# EAGLE library part NE555 (library RobotElementy)
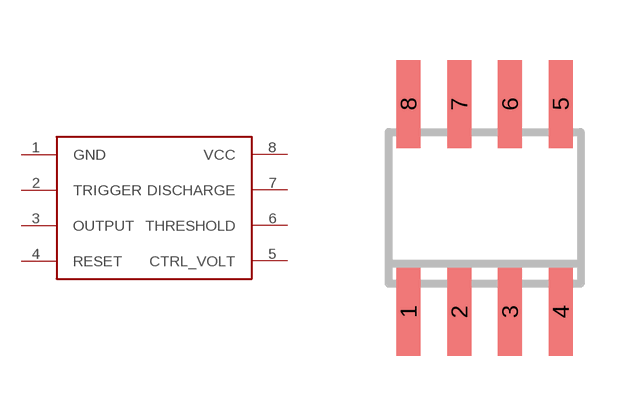
[diagram p4: symbol with the pads of SO8; footprint SO8]

Designator prefix -

## NE555  [SO8]
1  GND
2  TRIGGER
3  OUTPUT
4  RESET
5  CTRL_VOLT
6  THRESHOLD
7  DISCHARGE
8  VCC

## Footprint SO8 (pad centres in mm)
SMALL OUTLINE INTEGRATED CIRCUIT
smd 0.6 x 2.2: 1 -1.905,-2.6; 2 -0.635,-2.6; 3 0.635,-2.6; 4 1.905,-2.6; 5 1.905,2.6; 6 0.635,2.6; 7 -0.635,2.6; 8 -1.905,2.6